# Altium schematic symbol library Connectors.SchLib: 24 symbols
Pins are listed as number, name and electrical type; pins without a type are passive.

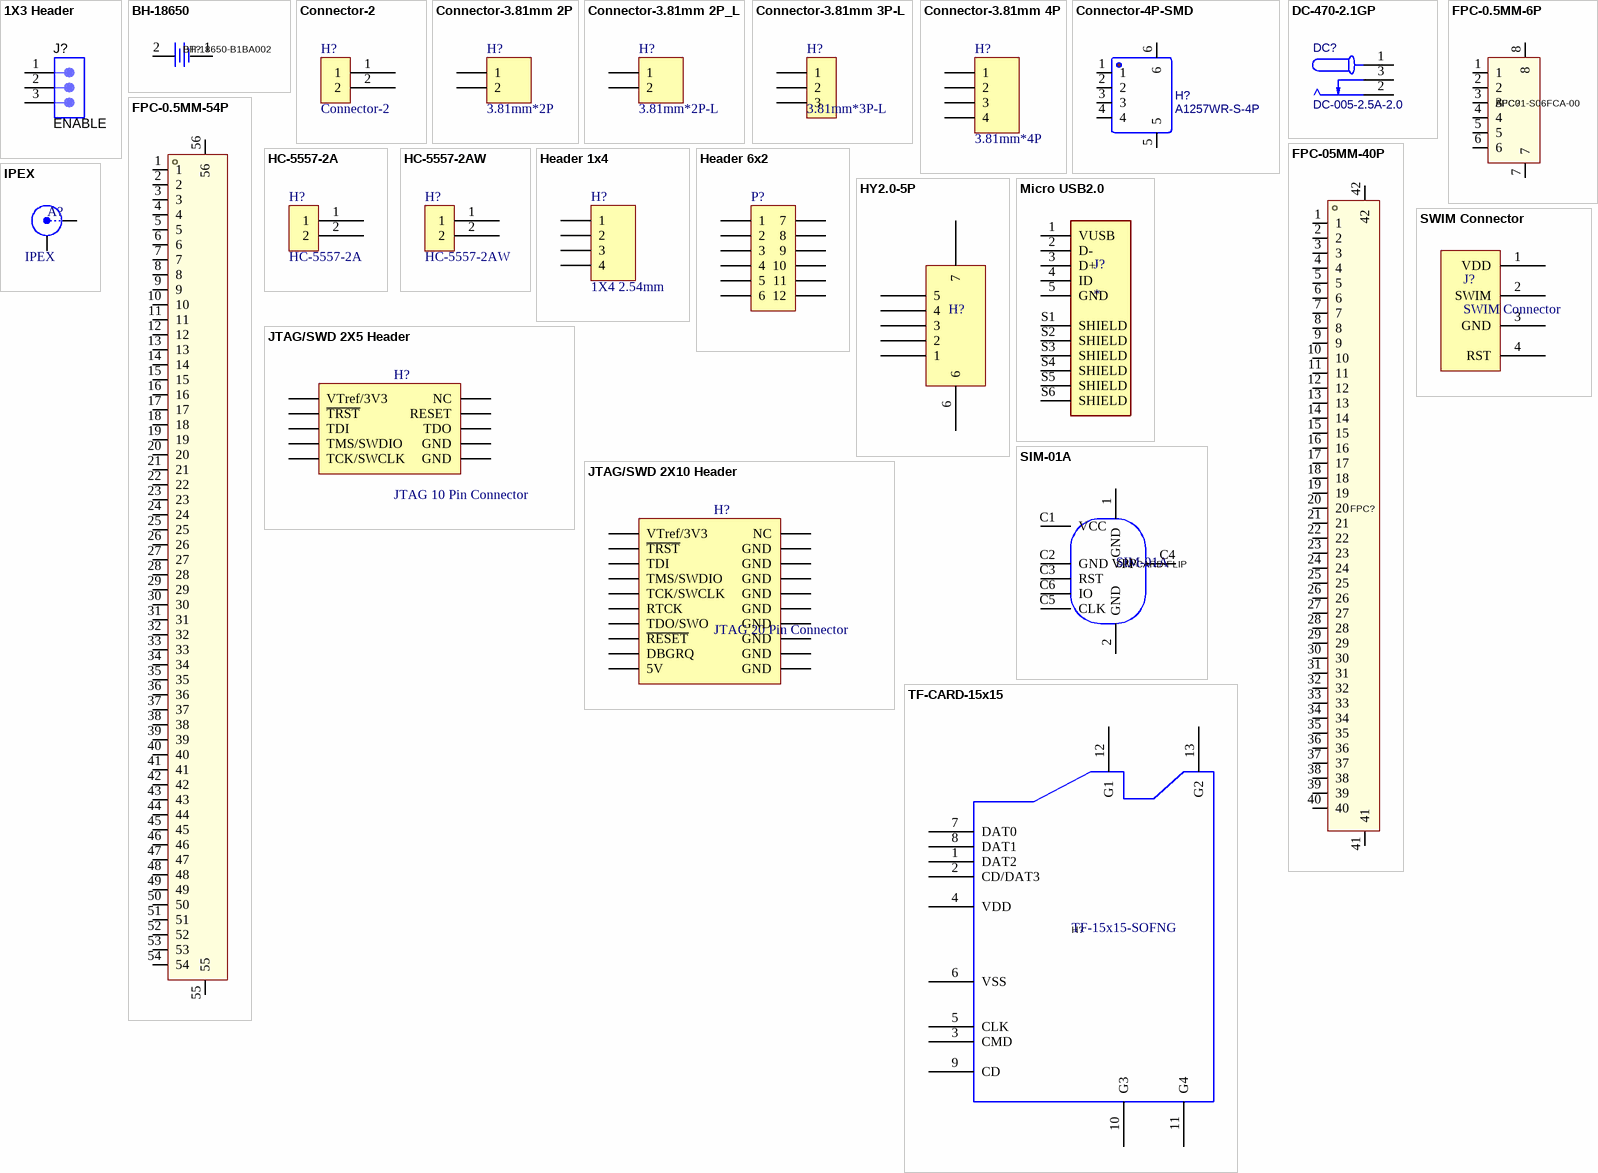
[diagram p0: symbols 1X3 Header to TF-CARD-15x15]

## 1X3 Header
designator J?, comment ENABLE
Header, TH, 100mil, 1x3, Gold plated, 230 mil above insulator; PartNumber: PBC03SAAN; Manufacturer: Sullins Connector Solutions; U/M: EA; SymbolVersion: 2008-06-30; ClassName: Header; Value: 1x3; CompType: Header; RoHS: Y; PackageReference: PBC03SAAN; MountType: TH; ComponentLink1Description: Datasheet Link; ComponentLink1URL: http://www.sullinscorp.com/catalogs/77_Page78-79_HEADER_.100_2.54mm_MALE_BREAKAWAY.pdf; Publisher: Texas Instruments; LatestRevisionDate: 2013-07-11; Supplier 1: Digi-Key; Supplier Part Number 1: S1011E-03-ND
footprint 2.54MM_1X3
pins: 1, 2, 3

## BH-18650
designator BT?, comment BH-18650-B1BA002
18650 Battery Socket.; Manufacturer: MYOUNG(美阳); Add into BOM: yes; Connector Type: 电池盒; Battery Type: 18650; Symbol: BH-18650-B1BA002; Device: BH-18650-B1BA002; LCSC Part Name: 电池盒 适用电池:18650; Supplier Part: C2988620; Manufacturer Part: BH-18650-B1BA002; Supplier Footprint: SMD; JLCPCB Part Class: Extended Part; Datasheet: https://atta.szlcsc.com/upload/public/pdf/source/20220402/870DB99AB50CA0DF8D51CF7C86A51FAB.pdf; Supplier: LCSC; Convert to PCB: yes
footprint BATTERY-SMD_18650-1S
pins: 1, 2

## Connector-2
designator H?
Two pin connector.
footprint CONNECT_PAD
footprint HC-5557-2A
footprint HC-5557-2AW
pins: 1, 2

## Connector-3.81mm 2P
designator H?, comment 3.81mm*2P
3.81mm ThroughHole Connector, Repluggable; LatestRevisionDate: 17-Jul-2002; LatestRevisionNote: Re-released for DXP Platform.; Publisher: Altium Limited
footprint 3.81mm-1*2P (Footprint not found)
pins: 1, 2

## Connector-3.81mm 2P_L
designator H?, comment 3.81mm*2P-L
3.81mm ThroughHole Connector, Repluggable Laying.; LatestRevisionDate: 17-Jul-2002; LatestRevisionNote: Re-released for DXP Platform.; Publisher: Altium Limited
footprint CONN-TH_2P-P3.81-L
pins: 1, 2

## Connector-3.81mm 3P-L
designator H?, comment 3.81mm*3P-L
3.81mm ThroughHole Connector, Repluggable Laying.; LatestRevisionDate: 17-Jul-2002; LatestRevisionNote: Re-released for DXP Platform.; Publisher: Altium Limited
footprint CONN-TH_3P-P3.81-L
pins: 1, 2, 3

## Connector-3.81mm 4P
designator H?, comment 3.81mm*4P
3.81mm ThroughHole Connector, Repluggable; MPN: B4B-EH-A; MF: JST (JAPAN SOLDERLESS TERMINALS); Fitted: Not fitted
signal-integrity model Connector
footprint 3.81mm-1*4P
pins: 1, 2, 3, 4

## Connector-4P-SMD
designator H?, comment A1257WR-S-4P
BOM_Manufacturer: CJT(长江连接器); Contributor: LCSC; BOM_Supplier: LCSC; BOM_Supplier Part: C225127; BOM_Manufacturer Part: A1257WR-S-4P; BOM_JLCPCB Part Class: Extended Part; spicePre: C; spiceSymbolName: A1257WR-S-4P
footprint CONN-SMD_A1257WR-S-4P
pins: 1, 2, 3, 4, 5, 6

## DC-470-2.1GP
designator DC?, comment DC-005-2.5A-2.0
DC Plug female, THC , Outer Diam 6.2mm; BOM_Manufacturer: GANGYUAN; BOM_Manufacturer Part: DC-470-2.1GP; Contributor: LCSC; BOM_Supplier: LCSC; BOM_Supplier Part: C194407; BOM_JLCPCB Part Class: Extended Part; spicePre: D; spiceSymbolName: DC-470-2.1GP
footprint DC-IN-TH_DC-470-2.1GP
pins: 1, 2, 3

## FPC-0.5MM-6P
designator FPC?, comment AFC01-S06FCA-00
FPC connector, 0.5mm spacing, 6Pin; Manufacturer: JS(钜硕电子); Add into BOM: yes; Locking Feature: 翻盖式; Number of Contacts: 6P; FFC, FCB Thickness: 0.3mm; Symbol: AFC01-S06FCA-00; Device: AFC01-S06FCA-00; LCSC Part Name: 间距:0.5mm P数:6P 翻盖式 下接; Supplier Part: C262655; Manufacturer Part: AFC01-S06FCA-00; Supplier Footprint: SMD,P=0.5mm,卧贴; JLCPCB Part Class: Extended Part; Datasheet: https://atta.szlcsc.com/upload/public/pdf/source/20190816/C413942_2A72D1AC756EAE17EEDF756A339D4500.pdf; Supplier: LCSC; Convert to PCB: yes; Contact Type: 下接; Pitch: 0.5mm; Mounting Type: 卧贴; Height Above Board: 2mm
footprint FPC-SMD_P0.50-6P
footprint FPC-SMD_P0.50-6P - reverse
footprint FPC-SMD_P0.50-6P_UPCONN
pins: 1, 2, 3, 4, 5, 6, 7, 8

## FPC-0.5MM-54P
designator FPC?, comment AFC01-S54FCC-00  (value not drawn)
FPC connector, 0.5mm spacing, 54Pin; LCSC#: *
footprint FPC-SMD_54P-P0.50
pins: 1, 2, 3, 4, 5, 6, 7, 8, 9, 10, 11, 12, 13, 14, 15, 16, 17, 18, 19, 20, 21, 22, 23, 24, 25, 26, 27, 28, 29, 30, 31, 32, 33, 34, 35, 36, 37, 38, 39, 40, 41, 42, 43, 44, 45, 46, 47, 48, 49, 50, 51, 52, 53, 54, 55, 56

## FPC-05MM-40P
designator FPC?, comment FPC-0.5mm-40P  (value not drawn)
FPC connector, 40pin , 0.5mm pin spacing.; Manufacturer: XUNPU(讯普); Symbol: FPC-05F-40PH20; Add into BOM: yes; Locking Feature: 翻盖式; Number of Contacts: 40P; FFC, FCB Thickness: 0.3mm; Device: FPC-05F-40PH20; LCSC Part Name: 间距:0.5mm P数:40P 翻盖式 下接; Supplier Part: C2856812; Manufacturer Part: FPC-05F-40PH20; Supplier Footprint: SMD,P=0.5mm,卧贴; JLCPCB Part Class: Extended Part; Datasheet: https://atta.szlcsc.com/upload/public/pdf/source/20210922/C2856812_6287431CB3508779F3E00A65E2D53D60.pdf; Supplier: LCSC; Convert to PCB: yes; Contact Type: 下接; Pitch: 0.5mm; Mounting Type: 卧贴; Height Above Board: 2mm; Operating Temperature Range: -25℃~+85℃
footprint FPC-SMD_40P-P0.50
footprint FPC-SMD_40P-P0.50 - reverse
pins: 1, 2, 3, 4, 5, 6, 7, 8, 9, 10, 11, 12, 13, 14, 15, 16, 17, 18, 19, 20, 21, 22, 23, 24, 25, 26, 27, 28, 29, 30, 31, 32, 33, 34, 35, 36, 37, 38, 39, 40, 41, 42

## HC-5557-2A
designator H?
HC-5557-2A Vertical.
footprint CONNECT_PAD
footprint HC-5557-2A
footprint HC-5557-2AW
pins: 1, 2

## HC-5557-2AW
designator H?
HC-5557-2A Laying.
footprint HC-5557-2AW
pins: 1, 2

## Header 1x4
designator H?, comment 1X4 2.54mm
2.54mm Header.; LatestRevisionDate: 17-Jul-2002; LatestRevisionNote: Re-released for DXP Platform.; Publisher: Altium Limited
footprint 2.54MM_1X4
pins: 1, 2, 3, 4

## Header 6x2
designator P?
Header 6x2 100mil; LatestRevisionDate: 17-Jul-2002; LatestRevisionNote: Re-released for DXP Platform.; Publisher: Altium Limited
signal-integrity model Connector
footprint 2.54MM_2X6
pins: 1, 2, 3, 4, 5, 6, 7, 8, 9, 10, 11, 12

## HY2.0-5P
designator H?  (value not drawn)
2.0mm Spacing Connector
footprint CON-SMD_HY2.0-5P
pins: 1, 2, 3, 4, 5, 6, 7

## IPEX
designator A?
IPEX Connector.; LatestRevisionDate: 17-Jul-2002; LatestRevisionNote: Re-released for DXP Platform.; Publisher: Altium Limited
footprint IPEX-SMD
pins: 1 X, 2 Y

## JTAG/SWD 2X5 Header
designator H?, comment JTAG 10 Pin Connector
10 pin Tiny JTAG / SWD Compatible Connector. (1.27mm); LatestRevisionDate: 17-Jul-2002; LatestRevisionNote: Re-released for DXP Platform.; Publisher: Altium Limited; LCSC#: C3405
signal-integrity model Connector
footprint CONN-TH_2X5P-P1.27
pins: 1 VTref/3V3, 2 NC, 3 ~{TRST}, 4 RESET, 5 TDI, 6 TDO, 7 TMS/SWDIO, 8 GND, 9 TCK/SWCLK, 10 GND

## JTAG/SWD 2X10 Header
designator H?, comment JTAG 20 Pin Connector
20 pin JTAG / SWD Compatible Connector.; LatestRevisionDate: 17-Jul-2002; LatestRevisionNote: Re-released for DXP Platform.; Publisher: Altium Limited; LCSC#: C3405
signal-integrity model Connector
footprint TH_1X10P-P2.54
pins: 1 VTref/3V3, 2 NC, 3 ~{TRST}, 4 GND, 5 TDI, 6 GND, 7 TMS/SWDIO, 8 GND, 9 TCK/SWCLK, 10 GND, 11 RTCK, 12 GND, 13 TDO/SWO, 14 GND, 15 ~{RESET}, 16 GND, 17 DBGRQ, 18 GND, 19 5V, 20 GND

## Micro USB2.0
designator J?
Micro USB 2.0, Input Output Connectors, B TYPE RECEPTACLE; MP: 10118193-0001LF; MF: Amphenol ICC; Value: *; Package: None; Check_prices: https://www.snapeda.com/parts/10118193-0001LF/Amphenol+FCI/view-part/?ref=eda; Purchase-URL: https://pricing.snapeda.com/search/part/10118193-0001LF/?ref=eda; Price: None; Availability: In Stock; SnapEDA_Link: https://www.snapeda.com/parts/10118193-0001LF/Amphenol+FCI/view-part/?ref=snap
footprint Micro USB 2.0
pins: 1 VUSB, 2 D-, 3 D+, 4 ID, 5 GND, S1 SHIELD, S2 SHIELD, S3 SHIELD, S4 SHIELD, S5 SHIELD, S6 SHIELD

## SIM-01A
designator SIM-CARD-FLIP
Flipable SIM Card SMD Connector.; Manufacturer: 韩国韩荣; Add into BOM: yes; Card Connection Mode: 翻盖式; Card Type: MicroSIM卡; Connector Type: 卡座; Body Height (Max): 1.8mm; Symbol: SIM-01A; Device: SIM-01A; Supplier: LCSC; Manufacturer Part: SIM-01A; Supplier Part: C99403; JLCPCB Part Class: Extended Part; LCSC Part Name: 翻盖式 MicroSIM卡 卡座; Supplier Footprint: SMD; Datasheet: https://atta.szlcsc.com/upload/public/pdf/source/20190322/C99403_7A1C0E4CBE68B7BF4E8C87FFA1FDD6F3.pdf; Convert to PCB: yes; Contact Material: -; Contact Plating: -; Operating Temperature Range: -
footprint SIM-SMD-FLIP (Flipable SMD Card Connector)
pins: 1 GND, 2 GND, C1 VCC, C2 GND, C3 RST, C4 VPP, C5 CLK, C6 IO

## SWIM Connector
designator J?
SWIM Connector for STM8
footprint SWIM_2.54MM_1X4
pins: 1 VDD (power), 2 SWIM, 3 GND (power), 4 RST

## TF-CARD-15x15
designator H?, comment TF-15x15-SOFNG
SD Card Connector , 15 x 15mm, auto eject.; Manufacturer: SOFNG(硕方); Symbol: TF-15×15; Add into BOM: yes; Card Connection Mode: 自弹式; Card Type: MicroSD卡(TF卡); Connector Type: 卡座; Device: TF-15x15; Supplier: LCSC; Manufacturer Part: TF-15x15; Supplier Part: C111196; JLCPCB Part Class: Extended Part; LCSC Part Name: 自弹式 MicroSD卡(TF卡) 卡座; Supplier Footprint: SMD; Datasheet: https://atta.szlcsc.com/upload/public/pdf/source/20200911/C111196_6985EA70490FD8F56A5C3F4D017F3786.pdf; Convert to PCB: yes; Maximum Body Height: -; Contact Material: -; Contact Plating: -; Operating Temperature Range: -; Soldering Temperature(Max): -
footprint TF-SMD_SOFNG-15-15
pins: 1 DAT2, 2 CD/DAT3, 3 CMD, 4 VDD, 5 CLK, 6 VSS, 7 DAT0, 8 DAT1, 9 CD, 10 G3, 11 G4, 12 G1, 13 G2